# Altium footprint library r0603_x4.PcbLib: 1 footprints
Each footprint in its own frame and in the unit in brackets; x right, y up, seen from the top. Pads: shape width x height; smd on the part's side, far side on the other; paste and mask are expansions set on the pad; w line width, h text height; cw(c..) or ccw(c..) is an arc to the next point about the centre after c.
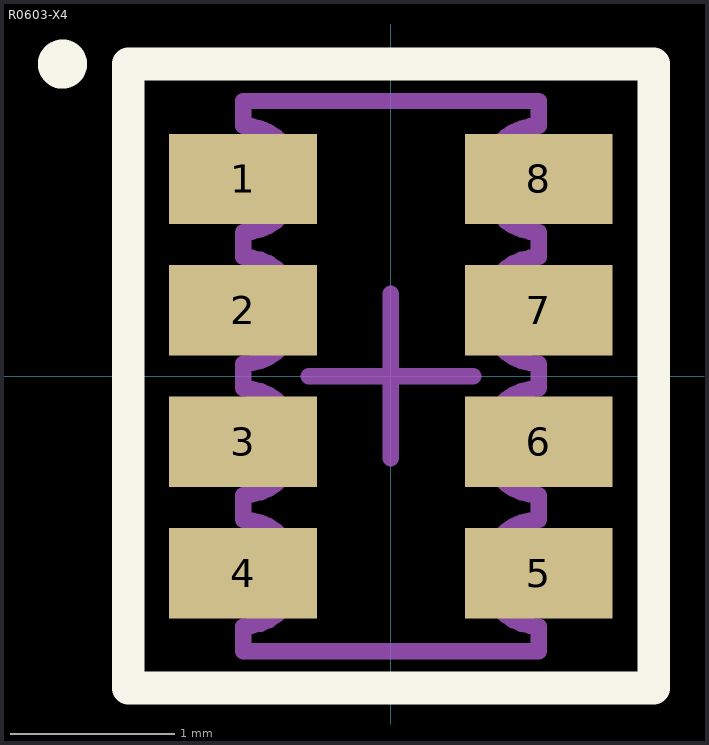
[diagram p0: the footprint, top view; thin cyan lines are the x and y axes]

## R0603-X4 [mm] "Chip Array, Concave, 8-Leads, Pitch 0,80mm,  Body 3,20x1,60mm,  IPC Medium Density"
height 0.7
pads (8):
  rect 0.9x0.55 smd: 1(-0.9,1.2) 2(-0.9,0.4) 3(-0.9,-0.4) 4(-0.9,-1.2) 5(0.9,-1.2) 6(0.9,-0.4) 7(0.9,0.4) 8(0.9,1.2)
Top Overlay:
  circle w0.2: c-2,1.9 r0.05
  lines w0.2: -1.6,-1.9 1.6,-1.9 1.6,1.9 0,1.9 -1.6,1.9 -1.6,-1.9
Top Comment:
  text ".Comment" at 1,2.5 h1.2
Top Designator:
  text ".Designator" at -0.5,2.5 h1.2
Top Component Outline:
  lines w0.1: -0.9,-1.675 0.9,-1.675 0.9,-1.525 cw(c0.9,-1.2) 0.9,-0.875 0.9,-0.725 cw(c0.9,-0.4) 0.9,-0.075 0.9,0.075 cw(c0.9,0.4) 0.9,0.725 0.9,0.875 cw(c0.9,1.2) 0.9,1.525 0.9,1.675 -0.9,1.675 -0.9,1.525 cw(c-0.9,1.2) -0.9,0.875 -0.9,0.725 cw(c-0.9,0.4) -0.9,0.075 -0.9,-0.075 cw(c-0.9,-0.4) -0.9,-0.725 -0.9,-0.875 cw(c-0.9,-1.2) -0.9,-1.525 -0.9,-1.675
Top Courtyard (Mech15):
  lines w0.05: -1.59,-1.925 1.59,-1.925 1.59,1.925 -1.59,1.925 -1.59,-1.925
  lines w0.1: -0.5,0 0.5,0 ; 0,-0.5 0,0.5
3D body "User Library-User Library-TC164.STEP": height 0.55, standoff 0, extent -0.8,-1.6 0.8,1.6